# EAGLE library part STD020M05X2 (library con-pinheader-standard)
male standard header 2mm
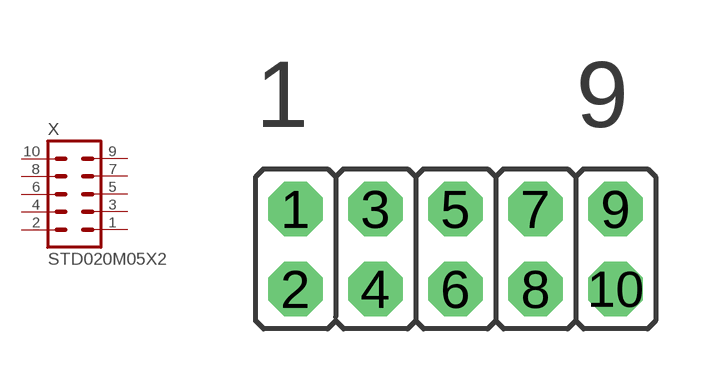
[diagram p53: symbol with the pads of STD020M05X2-2.00; footprint STD020M05X2-2.00]

Designator prefix X

## STD020M05X2-2.00MM  [STD020M05X2-2.00]
1  1  pas
2  2  pas
3  3  pas
4  4  pas
5  5  pas
6  6  pas
7  7  pas
8  8  pas
9  9  pas
10  10  pas

## Footprint STD020M05X2-2.00 (pad centres in mm)
male standard header 2mm
drill 0.85 octagon: 1 -4,1; 2 -4,-1; 3 -2,1; 4 -2,-1; 5 0,1; 6 0,-1; 7 2,1; 8 2,-1; 9 4,1; 10 4,-1